# EAGLE library part CONN_4X2_LOCK (library Stepper Synth 2.4)
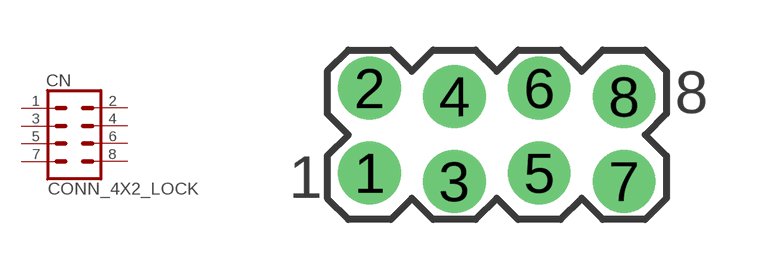
[diagram p1: symbol with the pads of CONN_4X2_LOCK; footprint CONN_4X2_LOCK]

Designator prefix CN

## CONN_4X2_LOCK4X2_LOCK  [CONN_4X2_LOCK]
1  1  pas
2  2  pas
3  3  pas
4  4  pas
5  5  pas
6  6  pas
7  7  pas
8  8  pas

## Footprint CONN_4X2_LOCK (pad centres in mm)
Double-row, 8-pin Pin Header (Male) Straight, 2.54 mm (0.10 in) row pitch, 2.54 mm (0.10 in) col pitch, 5.84 mm mating length, 10.16 X 5.08 X 8.38 mm body Double-row (2X4), 8-pin Pin Header (Male) Straight package with 2.54 mm (0.10 in) row pitch, 2.54 mm (0.10 in) col pitch, 0.64 mm lead width, 3.00 mm tail length and 5.84 mm mating length with overall size 10.16 X 5.08 X 8.38 mm, pin pattern - clockwise from top left
drill 1.016 pad 1.88: 1 -3.81,-1.143; 2 -3.81,1.397; 3 -1.27,-1.397; 4 -1.27,1.143; 5 1.27,-1.143; 6 1.27,1.397; 7 3.81,-1.397; 8 3.81,1.143